# EAGLE library part 87264-08 (library untitled)
RECEPTACAL
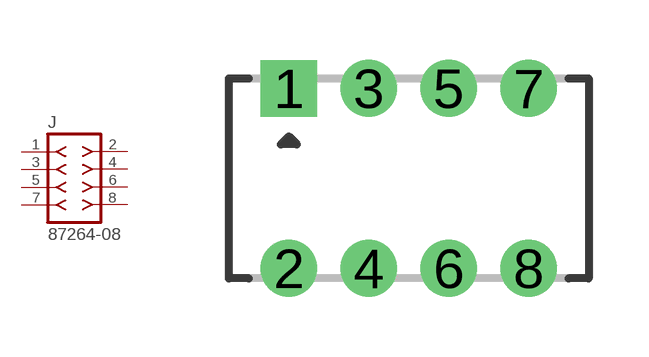
[diagram p205: symbol with the pads of 87264-08; footprint 87264-08]

Designator prefix J

## 87264-08  [87264-08]
1  1  pas
2  2  pas
3  3  pas
4  4  pas
5  5  pas
6  6  pas
7  7  pas
8  8  pas

## Footprint 87264-08 (pad centres in mm)
RECEPTACAL Dual Row, Side Entry
drill 0.914 square: 1 -3,2.25
drill 0.914 round: 2 -3,-2.25; 3 -1,2.25; 4 -1,-2.25; 5 1,2.25; 6 1,-2.25; 7 3,2.25; 8 3,-2.25